# Altium schematic symbol library MyLibs_Crystals.SchLib: 6 symbols
Pins are listed as number, name and electrical type; pins without a type are passive.

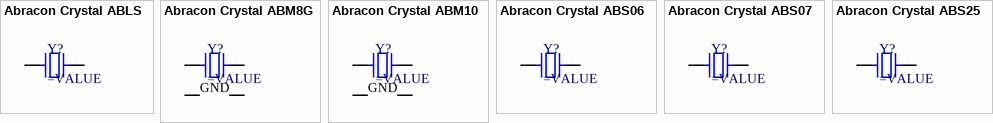
[diagram p0: symbols Abracon Crystal ABLS to Abracon Crystal ABS25]

## Abracon Crystal ABLS
designator Y?
SMT Crystal
pins: 1, 2

## Abracon Crystal ABM8G
designator Y?
SMT Crystal
pins: 1, 2 GND, 3, 4 GND

## Abracon Crystal ABM10
designator Y?
SMT Crystal
pins: 1, 2 GND, 3, 4 GND

## Abracon Crystal ABS06
designator Y?
SMT Crystal
pins: 1, 2

## Abracon Crystal ABS07
designator Y?
SMT Crystal
pins: 1, 2

## Abracon Crystal ABS25
designator Y?
SMT Crystal
pins: 1, 4